# Altium schematic symbol library miscellaneous.SchLib: 1 symbol
Pins are listed as number, name and electrical type; pins without a type are passive.

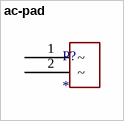
[diagram p0: symbol ac-pad]

## ac-pad
designator P?
pins: 1 ~, 2 ~